# EAGLE library part NTMFS4823NT1G (library NTMFS4823NT1G)
Power MOSFET Source: Datasheet <http://www.onsemi.com/pub/Collateral/NTMFS4823N-D.PDF>
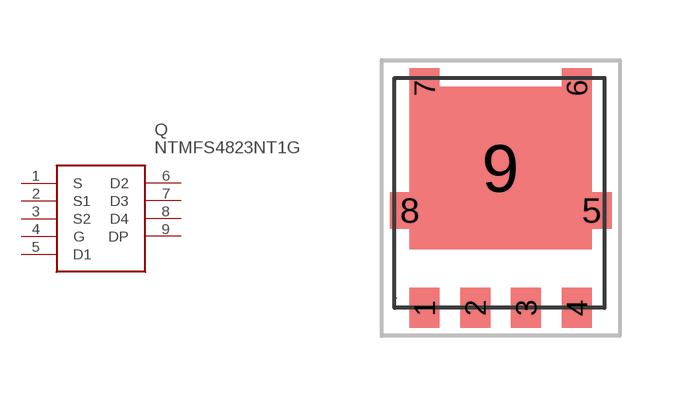
[diagram p0: symbol with the pads of NTMFS4823NT1G; footprint NTMFS4823NT1G]

Designator prefix Q

## NTMFS4823NT1G (Description: Power MOSFET; Height: 1.1mm; Manufacturer_Name: ON Semiconductor; Manufacturer_Part_Number: NTMFS4823NT1G)  [NTMFS4823NT1G]
1  S  out
2  S1  out
3  S2  out
4  G  in
5  D1  in
6  D2  in
7  D3  in
8  D4  in
9  DP  in

## Footprint NTMFS4823NT1G (pad centres in mm)
SO−8FL
smd 0.75 x 1: 1 0,0; 2 1.27,0; 3 2.54,0; 4 3.81,0; 6 3.81,5.495; 7 0,5.495
smd 1 x 0.905: 5 4.18,2.433; 8 -0.37,2.433
smd 4.56 x 4.055: 9 1.905,3.496